# Altium schematic symbol library ASICS_ACU.SchLib: 1 symbol
Pins are listed as number, name and electrical type; pins without a type are passive.

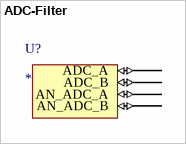
[diagram p0: symbol ADC-Filter]

## ADC-Filter
designator U?
pins: ADC_A (io), ADC_B (io), AN_ADC_A (io), AN_ADC_B (io)